# Altium footprint library FCI 10118193-0001LF.PcbLib: 1 footprints
Each footprint in its own frame and in the unit in brackets; x right, y up, seen from the top. Pads: shape width x height; smd on the part's side, far side on the other; paste and mask are expansions set on the pad; w line width, h text height; cw(c..) or ccw(c..) is an arc to the next point about the centre after c.
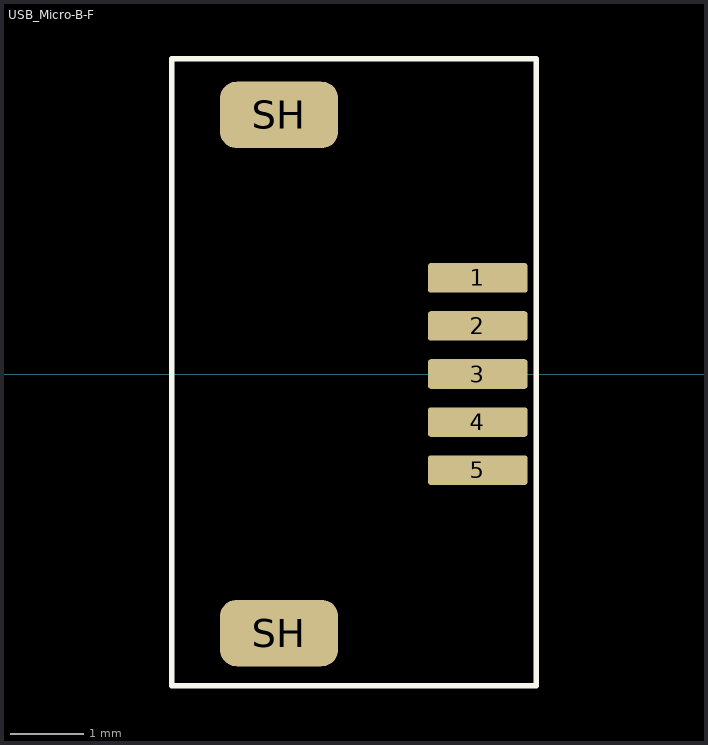
[diagram p0: the footprint, top view; thin cyan lines are the x and y axes]

## USB_Micro-B-F [mm]
height 1.2
pads (7):
  rrect20% 1.35x0.4 smd: 1(6.475,1.3) 2(6.475,0.65) 3(6.475,0) 4(6.475,-0.65) 5(6.475,-1.3)
  rrect50% 1.6x0.9 all layers, no hole: SH(3.787,-3.505) SH(3.787,3.505)
Top Overlay:
  lines w0.076: 2.337,-4.216 7.264,-4.216 7.264,4.267 2.337,4.267 2.337,-4.216
Top Solder:
  rectangle: 5.842,-1.27 7.112,1.27